# Altium schematic symbol library BatteryCR2477.SchLib: 1 symbol
Pins are listed as number, name and electrical type; pins without a type are passive.

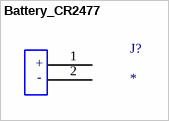
[diagram p0: symbol Battery_CR2477]

## Battery_CR2477
designator J?
pins: 1, 2
text: +; -